# Altium schematic symbol library kmilo17pet-NSC_Switcher.SchLib: 2226 symbols (part 56 of 59)
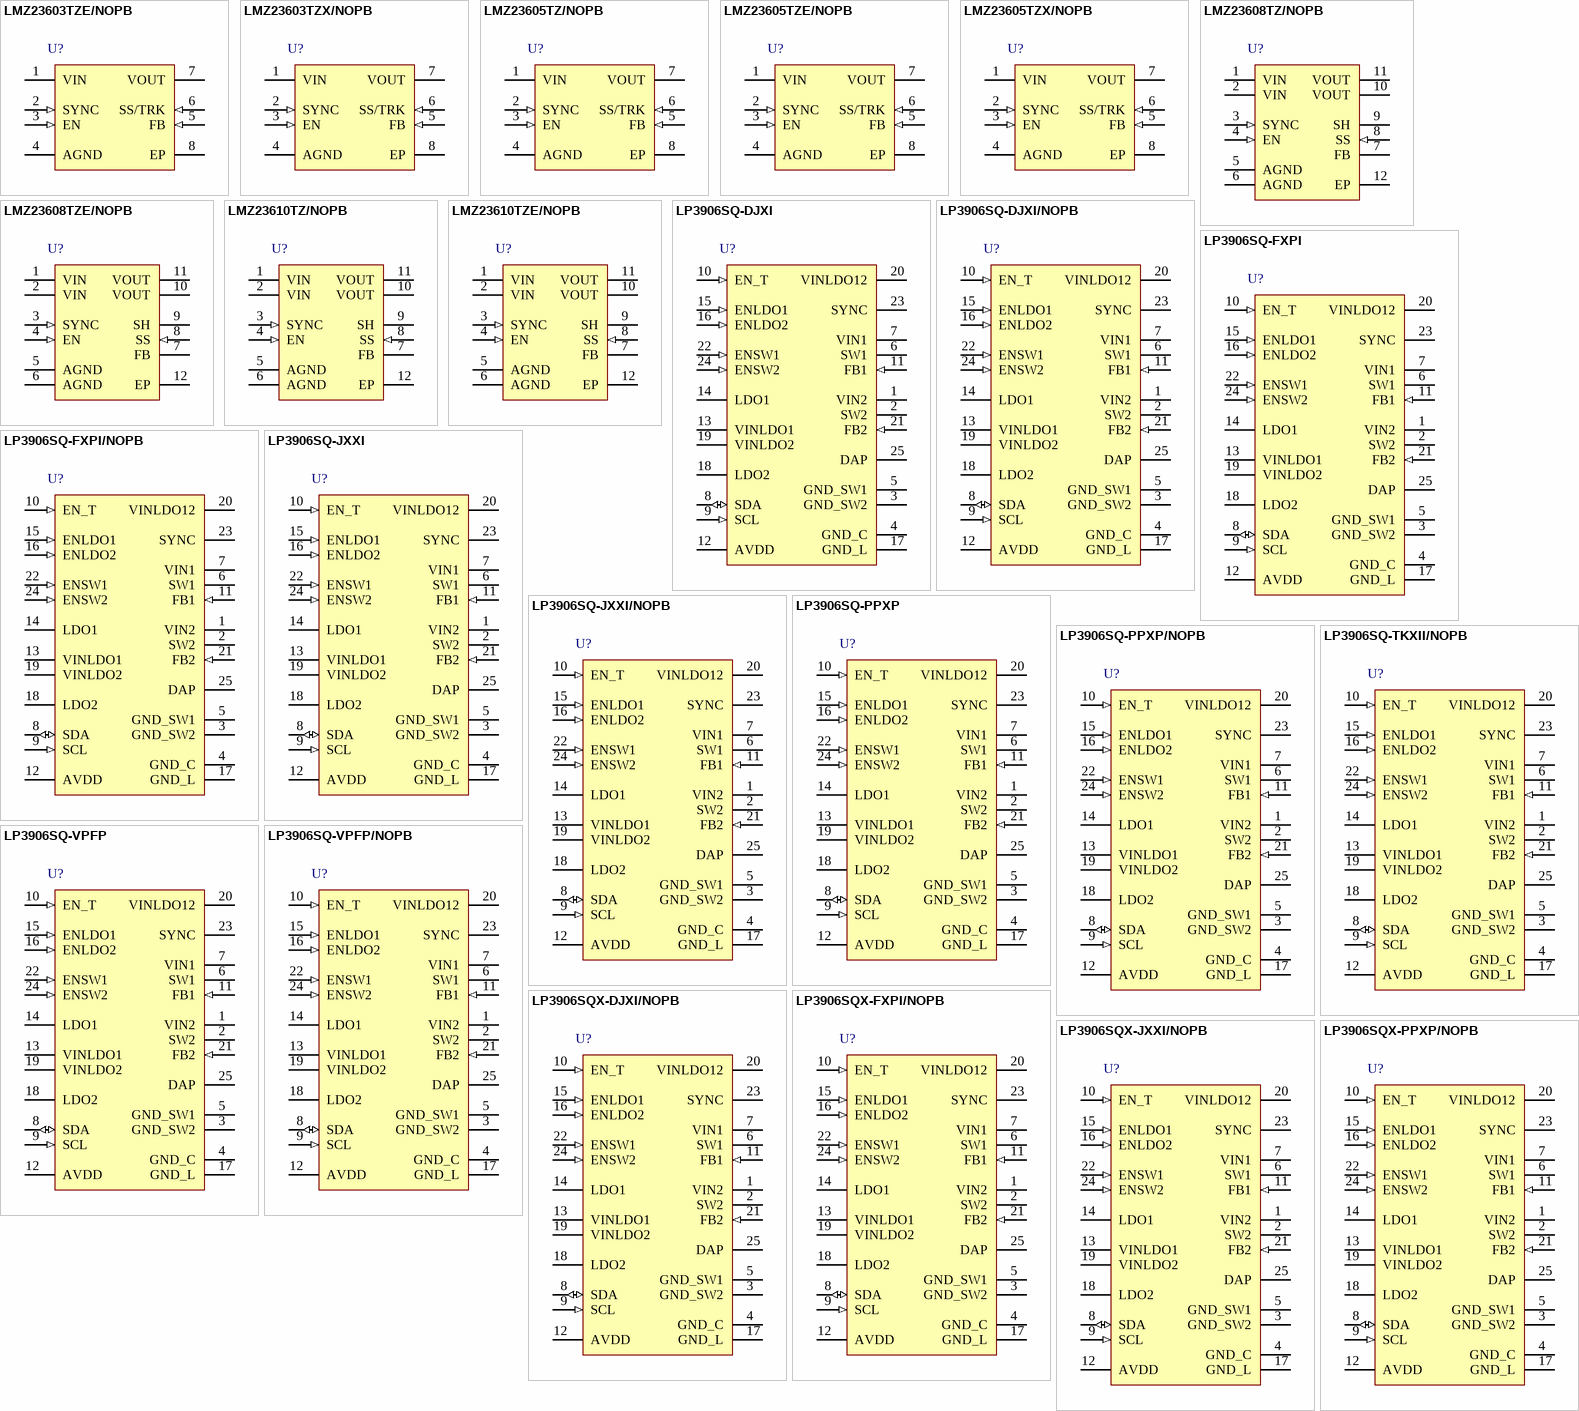
[diagram p124: symbols LMZ23603TZE/NOPB to LP3906SQX-PPXP/NOPB]

## LMZ23605TZX/NOPB
designator U?
5A SIMPLE SWITCHER® Power Module with 36V Maximum Input Voltage, 7 pin TO-PMOD, 500 Reel; PartNumber: LMZ23605TZX/NOPB; Manufacturer: National Semiconductor; PackageTopMarking: NSUZXYTTE#*LMZ23605; PowerWise: N; High-Reliability: Y; DatasheetVersion: Apr-2011; PackageVersion: revD, Apr-2011; PackageReference: TZA07A; PackageDescription: TO-PMOD-7, 10.16 x 9.85 x 4.57 mm Body, 7 Lead, 1.27mm Pitch, Surface Mount; RoHS: Y; PinCount: 7; CompType: Switcher; ComponentLink1Description: Manufacturer URL; ComponentLink1URL: http://www.national.com/; ComponentLink2Description: LMZ23605 Datasheet; ComponentLink2URL: http://www.national.com/ds/LM/LMZ23605.pdf; ComponentLink3Description: LMZ23605 Web Page; ComponentLink3URL: http://www.national.com/pf/LM/LMZ23605.html; ComponentLink4Description: TZA07A Package Page; ComponentLink4URL: http://www.national.com/packaging/folders/tza07a.html
footprint TZA07A_V (D2-PAK, 8-Leads, Body 9.9x10.2mm, Pitch 1.27mm, Lead Span 13.8mm, NSC Recommended)
pins: 1 VIN (power), 2 SYNC (in), 3 EN (in), 4 AGND (power), 5 FB (in), 6 SS/TRK (in), 7 VOUT (power), 8 EP (power)

## LMZ23608TZ/NOPB
designator U?
8A SIMPLE SWITCHER® Power Module with 36V Maximum Input Voltage and Current Sharing, 11 pin TO-PMOD, 32 Rail; PartNumber: LMZ23608TZ/NOPB; Manufacturer: National Semiconductor; PackageTopMarking: NSUZXYTTE#*LMZ23608; PowerWise: N; High-Reliability: Y; DatasheetVersion: May-2011; PackageVersion: revE, Apr-2011; PackageReference: TZA11A; PackageDescription: TO-PMOD, 15 x 15 x 5.9 mm Body, 11 Lead, 1.27 mm Pitch, Surface Mount; RoHS: Y; PinCount: 11; CompType: Switcher; ComponentLink1Description: Manufacturer URL; ComponentLink1URL: http://www.national.com/; ComponentLink2Description: LMZ23608 Datasheet; ComponentLink2URL: http://www.national.com/ds/LM/LMZ23608.pdf; ComponentLink3Description: LMZ23608 Web Page; ComponentLink3URL: http://www.national.com/pf/LM/LMZ23608.html; ComponentLink4Description: TZA11A Package Page; ComponentLink4URL: http://www.national.com/packaging/folders/tza11a.html
footprint TZA11A_V (TO, 12-Leads, Body 15x15mm, Pitch 1.27mm, Lead Span 17.8mm, NSC Recommended)
pins: 1 VIN (power), 2 VIN (power), 3 SYNC (in), 4 EN (in), 5 AGND (power), 6 AGND (power), 7 FB, 8 SS (in), 9 SH, 10 VOUT (power), 11 VOUT (power), 12 EP (power)

## LMZ23608TZE/NOPB
designator U?
8A SIMPLE SWITCHER® Power Module with 36V Maximum Input Voltage and Current Sharing, 11 pin TO-PMOD; PartNumber: LMZ23608TZE/NOPB; Manufacturer: National Semiconductor; PackageTopMarking: NSUZXYTTE#*LMZ23608; PowerWise: N; High-Reliability: Y; DatasheetVersion: May-2011; PackageVersion: revE, Apr-2011; PackageReference: TZA11A; PackageDescription: TO-PMOD, 15 x 15 x 5.9 mm Body, 11 Lead, 1.27 mm Pitch, Surface Mount; RoHS: Y; PinCount: 11; CompType: Switcher; ComponentLink1Description: Manufacturer URL; ComponentLink1URL: http://www.national.com/; ComponentLink2Description: LMZ23608 Datasheet; ComponentLink2URL: http://www.national.com/ds/LM/LMZ23608.pdf; ComponentLink3Description: LMZ23608 Web Page; ComponentLink3URL: http://www.national.com/pf/LM/LMZ23608.html; ComponentLink4Description: TZA11A Package Page; ComponentLink4URL: http://www.national.com/packaging/folders/tza11a.html
footprint TZA11A_V (TO, 12-Leads, Body 15x15mm, Pitch 1.27mm, Lead Span 17.8mm, NSC Recommended)
pins: 1 VIN (power), 2 VIN (power), 3 SYNC (in), 4 EN (in), 5 AGND (power), 6 AGND (power), 7 FB, 8 SS (in), 9 SH, 10 VOUT (power), 11 VOUT (power), 12 EP (power)

## LMZ23610TZ/NOPB
designator U?
10A SIMPLE SWITCHER® Power Module with 36V Maximum Input Voltage and Current Sharing, 11 pin TO-PMOD, 32 Rail; PartNumber: LMZ23610TZ/NOPB; Manufacturer: National Semiconductor; PackageTopMarking: NSUZXYTTE#*LMZ23610; PowerWise: N; High-Reliability: Y; DatasheetVersion: May-2011; PackageVersion: revE, Apr-2011; PackageReference: TZA11A; PackageDescription: TO-PMOD, 15 x 15 x 5.9 mm Body, 11 Lead, 1.27 mm Pitch, Surface Mount; RoHS: Y; PinCount: 11; CompType: Switcher; ComponentLink1Description: Manufacturer URL; ComponentLink1URL: http://www.national.com/; ComponentLink2Description: LMZ23610 Datasheet; ComponentLink2URL: http://www.national.com/ds/LM/LMZ23610.pdf; ComponentLink3Description: LMZ23610 Web Page; ComponentLink3URL: http://www.national.com/pf/LM/LMZ23610.html; ComponentLink4Description: TZA11A Package Page; ComponentLink4URL: http://www.national.com/packaging/folders/tza11a.html
footprint TZA11A_V (TO, 12-Leads, Body 15x15mm, Pitch 1.27mm, Lead Span 17.8mm, NSC Recommended)
pins: 1 VIN (power), 2 VIN (power), 3 SYNC (in), 4 EN (in), 5 AGND (power), 6 AGND (power), 7 FB, 8 SS (in), 9 SH, 10 VOUT (power), 11 VOUT (power), 12 EP (power)

## LMZ23610TZE/NOPB
designator U?
10A SIMPLE SWITCHER® Power Module with 36V Maximum Input Voltage and Current Sharing, 11 pin TO-PMOD, 250 Reel; PartNumber: LMZ23610TZE/NOPB; Manufacturer: National Semiconductor; PackageTopMarking: NSUZXYTTE#*LMZ23610; PowerWise: N; High-Reliability: Y; DatasheetVersion: May-2011; PackageVersion: revE, Apr-2011; PackageReference: TZA11A; PackageDescription: TO-PMOD, 15 x 15 x 5.9 mm Body, 11 Lead, 1.27 mm Pitch, Surface Mount; RoHS: Y; PinCount: 11; CompType: Switcher; ComponentLink1Description: Manufacturer URL; ComponentLink1URL: http://www.national.com/; ComponentLink2Description: LMZ23610 Datasheet; ComponentLink2URL: http://www.national.com/ds/LM/LMZ23610.pdf; ComponentLink3Description: LMZ23610 Web Page; ComponentLink3URL: http://www.national.com/pf/LM/LMZ23610.html; ComponentLink4Description: TZA11A Package Page; ComponentLink4URL: http://www.national.com/packaging/folders/tza11a.html
footprint TZA11A_V (TO, 12-Leads, Body 15x15mm, Pitch 1.27mm, Lead Span 17.8mm, NSC Recommended)
pins: 1 VIN (power), 2 VIN (power), 3 SYNC (in), 4 EN (in), 5 AGND (power), 6 AGND (power), 7 FB, 8 SS (in), 9 SH, 10 VOUT (power), 11 VOUT (power), 12 EP (power)

## LP3906SQ-DJXI
designator U?
Dual High-Current Step-Down DC/DC and Dual Linear Regulator with I2C Compatible Interface, 24-pin LLP; PartNumber: LP3906SQ-DJXI; Manufacturer: National Semiconductor; PackageTopMarking: NS*UZXYTT*06-DJXI; PowerWise: Y; CompType: Switcher; DatasheetVersion: Aug-2010; PackageVersion: revA, Oct-2003; PackageReference: SQA24B; PackageDescription: LLP, Plastic, Quad, 5 x 4 x 0.8mm Body, 24 Lead, 0.5mm Pitch, No Pullback; RoHS: Y; PinCount: 24; High-Reliability: Y; Code_JEDEC: MO-220-WGHD-1; ComponentLink1Description: Manufacturer URL; ComponentLink1URL: http://www.national.com/; ComponentLink2Description: LP3906 Datasheet; ComponentLink2URL: http://www.national.com/ds/LP/LP3906.pdf; ComponentLink3Description: LP3906 Web Page; ComponentLink3URL: http://www.national.com/pf/LP/LP3906.html; ComponentLink4Description: SQA24B Package Page; ComponentLink4URL: http://www.national.com/packaging/folders/sqa24b.html
footprint SQA24B (QFN, 24-Leads, Body 5x4mm, Pitch 0.5mm, NSC Recommended)
pins: 1 VIN2 (power), 2 SW2 (power), 3 GND_SW2 (power), 4 GND_C (power), 5 GND_SW1 (power), 6 SW1 (power), 7 VIN1 (power), 8 SDA (io), 9 SCL (in), 10 EN_T (in), 11 FB1 (in), 12 AVDD (power), 13 VINLDO1 (power), 14 LDO1 (power), 15 ENLDO1 (in), 16 ENLDO2 (in), 17 GND_L (power), 18 LDO2 (power), 19 VINLDO2 (power), 20 VINLDO12 (power), 21 FB2 (in), 22 ENSW1 (in), 23 SYNC, 24 ENSW2 (in), 25 DAP (power)

## LP3906SQ-DJXI/NOPB
designator U?
Dual High-Current Step-Down DC/DC and Dual Linear Regulator with I2C Compatible Interface, 24-pin LLP, Pb-Free; PartNumber: LP3906SQ-DJXI/NOPB; Manufacturer: National Semiconductor; PackageTopMarking: NS*UZXYTT*06-DJXI; PowerWise: Y; CompType: Switcher; DatasheetVersion: Aug-2010; PackageVersion: revA, Oct-2003; PackageReference: SQA24B; PackageDescription: LLP, Plastic, Quad, 5 x 4 x 0.8mm Body, 24 Lead, 0.5mm Pitch, No Pullback; RoHS: Y; PinCount: 24; High-Reliability: Y; Code_JEDEC: MO-220-WGHD-1; ComponentLink1Description: Manufacturer URL; ComponentLink1URL: http://www.national.com/; ComponentLink2Description: LP3906 Datasheet; ComponentLink2URL: http://www.national.com/ds/LP/LP3906.pdf; ComponentLink3Description: LP3906 Web Page; ComponentLink3URL: http://www.national.com/pf/LP/LP3906.html; ComponentLink4Description: SQA24B Package Page; ComponentLink4URL: http://www.national.com/packaging/folders/sqa24b.html
footprint SQA24B (QFN, 24-Leads, Body 5x4mm, Pitch 0.5mm, NSC Recommended)
pins: 1 VIN2 (power), 2 SW2 (power), 3 GND_SW2 (power), 4 GND_C (power), 5 GND_SW1 (power), 6 SW1 (power), 7 VIN1 (power), 8 SDA (io), 9 SCL (in), 10 EN_T (in), 11 FB1 (in), 12 AVDD (power), 13 VINLDO1 (power), 14 LDO1 (power), 15 ENLDO1 (in), 16 ENLDO2 (in), 17 GND_L (power), 18 LDO2 (power), 19 VINLDO2 (power), 20 VINLDO12 (power), 21 FB2 (in), 22 ENSW1 (in), 23 SYNC, 24 ENSW2 (in), 25 DAP (power)

## LP3906SQ-FXPI
designator U?
Dual High-Current Step-Down DC/DC and Dual Linear Regulator with I2C Compatible Interface, 24-pin LLP; PartNumber: LP3906SQ-FXPI; Manufacturer: National Semiconductor; PackageTopMarking: NS*UZXYTT*06-FXPI; PowerWise: N; CompType: Switcher; High-Reliability: Y; DatasheetVersion: Aug-2010; PackageVersion: revA, Oct-2003; PackageReference: SQA24B; PackageDescription: LLP, Plastic, Quad, 5 x 4 x 0.8mm Body, 24 Lead, 0.5mm Pitch, No Pullback; RoHS: Y; PinCount: 24; Code_JEDEC: MO-220-WGHD-1; ComponentLink1Description: Manufacturer URL; ComponentLink1URL: http://www.national.com/; ComponentLink2Description: LP3906 Datasheet; ComponentLink2URL: http://www.national.com/ds/LP/LP3906.pdf; ComponentLink3Description: LP3906 Web Page; ComponentLink3URL: http://www.national.com/pf/LP/LP3906.html; ComponentLink4Description: SQA24B Package Page; ComponentLink4URL: http://www.national.com/packaging/folders/sqa24b.html
footprint SQA24B (QFN, 24-Leads, Body 5x4mm, Pitch 0.5mm, NSC Recommended)
pins: 1 VIN2 (power), 2 SW2 (power), 3 GND_SW2 (power), 4 GND_C (power), 5 GND_SW1 (power), 6 SW1 (power), 7 VIN1 (power), 8 SDA (io), 9 SCL (in), 10 EN_T (in), 11 FB1 (in), 12 AVDD (power), 13 VINLDO1 (power), 14 LDO1 (power), 15 ENLDO1 (in), 16 ENLDO2 (in), 17 GND_L (power), 18 LDO2 (power), 19 VINLDO2 (power), 20 VINLDO12 (power), 21 FB2 (in), 22 ENSW1 (in), 23 SYNC, 24 ENSW2 (in), 25 DAP (power)

## LP3906SQ-FXPI/NOPB
designator U?
Dual High-Current Step-Down DC/DC and Dual Linear Regulator with I2C Compatible Interface, 24-pin LLP, Pb-Free; PartNumber: LP3906SQ-FXPI/NOPB; Manufacturer: National Semiconductor; PackageTopMarking: NS*UZXYTT*06-FXPI; PowerWise: N; CompType: Switcher; High-Reliability: Y; DatasheetVersion: Aug-2010; PackageVersion: revA, Oct-2003; PackageReference: SQA24B; PackageDescription: LLP, Plastic, Quad, 5 x 4 x 0.8mm Body, 24 Lead, 0.5mm Pitch, No Pullback; RoHS: Y; PinCount: 24; Code_JEDEC: MO-220-WGHD-1; ComponentLink1Description: Manufacturer URL; ComponentLink1URL: http://www.national.com/; ComponentLink2Description: LP3906 Datasheet; ComponentLink2URL: http://www.national.com/ds/LP/LP3906.pdf; ComponentLink3Description: LP3906 Web Page; ComponentLink3URL: http://www.national.com/pf/LP/LP3906.html; ComponentLink4Description: SQA24B Package Page; ComponentLink4URL: http://www.national.com/packaging/folders/sqa24b.html
footprint SQA24B (QFN, 24-Leads, Body 5x4mm, Pitch 0.5mm, NSC Recommended)
pins: 1 VIN2 (power), 2 SW2 (power), 3 GND_SW2 (power), 4 GND_C (power), 5 GND_SW1 (power), 6 SW1 (power), 7 VIN1 (power), 8 SDA (io), 9 SCL (in), 10 EN_T (in), 11 FB1 (in), 12 AVDD (power), 13 VINLDO1 (power), 14 LDO1 (power), 15 ENLDO1 (in), 16 ENLDO2 (in), 17 GND_L (power), 18 LDO2 (power), 19 VINLDO2 (power), 20 VINLDO12 (power), 21 FB2 (in), 22 ENSW1 (in), 23 SYNC, 24 ENSW2 (in), 25 DAP (power)

## LP3906SQ-JXXI
designator U?
Dual High-Current Step-Down DC/DC and Dual Linear Regulator with I2C Compatible Interface, 24-pin LLP; PartNumber: LP3906SQ-JXXI; Manufacturer: National Semiconductor; PackageTopMarking: NS*UZXYTT*06-JXXI; PowerWise: Y; CompType: Switcher; DatasheetVersion: Aug-2010; PackageVersion: revA, Oct-2003; PackageReference: SQA24B; PackageDescription: LLP, Plastic, Quad, 5 x 4 x 0.8mm Body, 24 Lead, 0.5mm Pitch, No Pullback; RoHS: Y; PinCount: 24; High-Reliability: Y; Code_JEDEC: MO-220-WGHD-1; ComponentLink1Description: Manufacturer URL; ComponentLink1URL: http://www.national.com/; ComponentLink2Description: LP3906 Datasheet; ComponentLink2URL: http://www.national.com/ds/LP/LP3906.pdf; ComponentLink3Description: LP3906 Web Page; ComponentLink3URL: http://www.national.com/pf/LP/LP3906.html; ComponentLink4Description: SQA24B Package Page; ComponentLink4URL: http://www.national.com/packaging/folders/sqa24b.html
footprint SQA24B (QFN, 24-Leads, Body 5x4mm, Pitch 0.5mm, NSC Recommended)
pins: 1 VIN2 (power), 2 SW2 (power), 3 GND_SW2 (power), 4 GND_C (power), 5 GND_SW1 (power), 6 SW1 (power), 7 VIN1 (power), 8 SDA (io), 9 SCL (in), 10 EN_T (in), 11 FB1 (in), 12 AVDD (power), 13 VINLDO1 (power), 14 LDO1 (power), 15 ENLDO1 (in), 16 ENLDO2 (in), 17 GND_L (power), 18 LDO2 (power), 19 VINLDO2 (power), 20 VINLDO12 (power), 21 FB2 (in), 22 ENSW1 (in), 23 SYNC, 24 ENSW2 (in), 25 DAP (power)

## LP3906SQ-JXXI/NOPB
designator U?
Dual High-Current Step-Down DC/DC and Dual Linear Regulator with I2C Compatible Interface, 24-pin LLP, Pb-Free; PartNumber: LP3906SQ-JXXI/NOPB; Manufacturer: National Semiconductor; PackageTopMarking: NS*UZXYTT*06-JXXI; PowerWise: Y; CompType: Switcher; DatasheetVersion: Aug-2010; PackageVersion: revA, Oct-2003; PackageReference: SQA24B; PackageDescription: LLP, Plastic, Quad, 5 x 4 x 0.8mm Body, 24 Lead, 0.5mm Pitch, No Pullback; RoHS: Y; PinCount: 24; High-Reliability: Y; Code_JEDEC: MO-220-WGHD-1; ComponentLink1Description: Manufacturer URL; ComponentLink1URL: http://www.national.com/; ComponentLink2Description: LP3906 Datasheet; ComponentLink2URL: http://www.national.com/ds/LP/LP3906.pdf; ComponentLink3Description: LP3906 Web Page; ComponentLink3URL: http://www.national.com/pf/LP/LP3906.html; ComponentLink4Description: SQA24B Package Page; ComponentLink4URL: http://www.national.com/packaging/folders/sqa24b.html
footprint SQA24B (QFN, 24-Leads, Body 5x4mm, Pitch 0.5mm, NSC Recommended)
pins: 1 VIN2 (power), 2 SW2 (power), 3 GND_SW2 (power), 4 GND_C (power), 5 GND_SW1 (power), 6 SW1 (power), 7 VIN1 (power), 8 SDA (io), 9 SCL (in), 10 EN_T (in), 11 FB1 (in), 12 AVDD (power), 13 VINLDO1 (power), 14 LDO1 (power), 15 ENLDO1 (in), 16 ENLDO2 (in), 17 GND_L (power), 18 LDO2 (power), 19 VINLDO2 (power), 20 VINLDO12 (power), 21 FB2 (in), 22 ENSW1 (in), 23 SYNC, 24 ENSW2 (in), 25 DAP (power)

## LP3906SQ-PPXP
designator U?
Dual High-Current Step-Down DC/DC and Dual Linear Regulator with I2C Compatible Interface, 24-pin LLP; PartNumber: LP3906SQ-PPXP; Manufacturer: National Semiconductor; PackageTopMarking: NS*UZXYTT*06-PPXP; PowerWise: Y; CompType: Switcher; DatasheetVersion: Aug-2010; PackageVersion: revA, Oct-2003; PackageReference: SQA24B; PackageDescription: LLP, Plastic, Quad, 5 x 4 x 0.8mm Body, 24 Lead, 0.5mm Pitch, No Pullback; RoHS: Y; PinCount: 24; High-Reliability: Y; Code_JEDEC: MO-220-WGHD-1; ComponentLink1Description: Manufacturer URL; ComponentLink1URL: http://www.national.com/; ComponentLink2Description: LP3906 Datasheet; ComponentLink2URL: http://www.national.com/ds/LP/LP3906.pdf; ComponentLink3Description: LP3906 Web Page; ComponentLink3URL: http://www.national.com/pf/LP/LP3906.html; ComponentLink4Description: SQA24B Package Page; ComponentLink4URL: http://www.national.com/packaging/folders/sqa24b.html
footprint SQA24B (QFN, 24-Leads, Body 5x4mm, Pitch 0.5mm, NSC Recommended)
pins: 1 VIN2 (power), 2 SW2 (power), 3 GND_SW2 (power), 4 GND_C (power), 5 GND_SW1 (power), 6 SW1 (power), 7 VIN1 (power), 8 SDA (io), 9 SCL (in), 10 EN_T (in), 11 FB1 (in), 12 AVDD (power), 13 VINLDO1 (power), 14 LDO1 (power), 15 ENLDO1 (in), 16 ENLDO2 (in), 17 GND_L (power), 18 LDO2 (power), 19 VINLDO2 (power), 20 VINLDO12 (power), 21 FB2 (in), 22 ENSW1 (in), 23 SYNC, 24 ENSW2 (in), 25 DAP (power)

## LP3906SQ-PPXP/NOPB
designator U?
Dual High-Current Step-Down DC/DC and Dual Linear Regulator with I2C Compatible Interface, 24-pin LLP, Pb-Free; PartNumber: LP3906SQ-PPXP/NOPB; Manufacturer: National Semiconductor; PackageTopMarking: NS*UZXYTT*06-PPXP; PowerWise: Y; CompType: Switcher; DatasheetVersion: Aug-2010; PackageVersion: revA, Oct-2003; PackageReference: SQA24B; PackageDescription: LLP, Plastic, Quad, 5 x 4 x 0.8mm Body, 24 Lead, 0.5mm Pitch, No Pullback; RoHS: Y; PinCount: 24; High-Reliability: Y; Code_JEDEC: MO-220-WGHD-1; ComponentLink1Description: Manufacturer URL; ComponentLink1URL: http://www.national.com/; ComponentLink2Description: LP3906 Datasheet; ComponentLink2URL: http://www.national.com/ds/LP/LP3906.pdf; ComponentLink3Description: LP3906 Web Page; ComponentLink3URL: http://www.national.com/pf/LP/LP3906.html; ComponentLink4Description: SQA24B Package Page; ComponentLink4URL: http://www.national.com/packaging/folders/sqa24b.html
footprint SQA24B (QFN, 24-Leads, Body 5x4mm, Pitch 0.5mm, NSC Recommended)
pins: 1 VIN2 (power), 2 SW2 (power), 3 GND_SW2 (power), 4 GND_C (power), 5 GND_SW1 (power), 6 SW1 (power), 7 VIN1 (power), 8 SDA (io), 9 SCL (in), 10 EN_T (in), 11 FB1 (in), 12 AVDD (power), 13 VINLDO1 (power), 14 LDO1 (power), 15 ENLDO1 (in), 16 ENLDO2 (in), 17 GND_L (power), 18 LDO2 (power), 19 VINLDO2 (power), 20 VINLDO12 (power), 21 FB2 (in), 22 ENSW1 (in), 23 SYNC, 24 ENSW2 (in), 25 DAP (power)

## LP3906SQ-TKXII/NOPB
designator U?
Dual High-Current Step-Down DC/DC and Dual Linear Regulator with I2C Compatible Interface, 24 pin LLP; PartNumber: LP3906SQ-TKXII/NOPB; Manufacturer: National Semiconductor; PackageTopMarking: NS*UZXYTT*06TKXII; PowerWise: N; CompType: Switcher; High-Reliability: Y; DatasheetVersion: Aug-2010; PackageVersion: revA, Oct-2003; PackageReference: SQA24B; PackageDescription: LLP, Plastic, Quad, 5 x 4 x 0.8mm Body, 24 Lead, 0.5mm Pitch, No Pullback; RoHS: Y; PinCount: 24; Code_JEDEC: MO-220-WGHD-1; ComponentLink1Description: Manufacturer URL; ComponentLink1URL: http://www.national.com/; ComponentLink2Description: LP3906 Datasheet; ComponentLink2URL: http://www.national.com/ds/LP/LP3906.pdf; ComponentLink3Description: LP3906 Web Page; ComponentLink3URL: http://www.national.com/pf/LP/LP3906.html; ComponentLink4Description: SQA24B Package Page; ComponentLink4URL: http://www.national.com/packaging/folders/sqa24b.html
footprint SQA24B (QFN, 24-Leads, Body 5x4mm, Pitch 0.5mm, NSC Recommended)
pins: 1 VIN2 (power), 2 SW2 (power), 3 GND_SW2 (power), 4 GND_C (power), 5 GND_SW1 (power), 6 SW1 (power), 7 VIN1 (power), 8 SDA (io), 9 SCL (in), 10 EN_T (in), 11 FB1 (in), 12 AVDD (power), 13 VINLDO1 (power), 14 LDO1 (power), 15 ENLDO1 (in), 16 ENLDO2 (in), 17 GND_L (power), 18 LDO2 (power), 19 VINLDO2 (power), 20 VINLDO12 (power), 21 FB2 (in), 22 ENSW1 (in), 23 SYNC, 24 ENSW2 (in), 25 DAP (power)

## LP3906SQ-VPFP
designator U?
Dual High-Current Step-Down DC/DC and Dual Linear Regulator with I2C Compatible Interface, 24-pin LLP; PartNumber: LP3906SQ-VPFP; Manufacturer: National Semiconductor; PackageTopMarking: NS*UZXYTT*06-VPFP; PowerWise: Y; CompType: Switcher; DatasheetVersion: Aug-2010; PackageVersion: revA, Oct-2003; PackageReference: SQA24B; PackageDescription: LLP, Plastic, Quad, 5 x 4 x 0.8mm Body, 24 Lead, 0.5mm Pitch, No Pullback; RoHS: Y; PinCount: 24; High-Reliability: Y; Code_JEDEC: MO-220-WGHD-1; ComponentLink1Description: Manufacturer URL; ComponentLink1URL: http://www.national.com/; ComponentLink2Description: LP3906 Datasheet; ComponentLink2URL: http://www.national.com/ds/LP/LP3906.pdf; ComponentLink3Description: LP3906 Web Page; ComponentLink3URL: http://www.national.com/pf/LP/LP3906.html; ComponentLink4Description: SQA24B Package Page; ComponentLink4URL: http://www.national.com/packaging/folders/sqa24b.html
footprint SQA24B (QFN, 24-Leads, Body 5x4mm, Pitch 0.5mm, NSC Recommended)
pins: 1 VIN2 (power), 2 SW2 (power), 3 GND_SW2 (power), 4 GND_C (power), 5 GND_SW1 (power), 6 SW1 (power), 7 VIN1 (power), 8 SDA (io), 9 SCL (in), 10 EN_T (in), 11 FB1 (in), 12 AVDD (power), 13 VINLDO1 (power), 14 LDO1 (power), 15 ENLDO1 (in), 16 ENLDO2 (in), 17 GND_L (power), 18 LDO2 (power), 19 VINLDO2 (power), 20 VINLDO12 (power), 21 FB2 (in), 22 ENSW1 (in), 23 SYNC, 24 ENSW2 (in), 25 DAP (power)

## LP3906SQ-VPFP/NOPB
designator U?
Dual High-Current Step-Down DC/DC and Dual Linear Regulator with I2C Compatible Interface, 24-pin LLP, Pb-Free; PartNumber: LP3906SQ-VPFP/NOPB; Manufacturer: National Semiconductor; PackageTopMarking: NS*UZXYTT*06-VPFP; PowerWise: Y; CompType: Switcher; DatasheetVersion: Aug-2010; PackageVersion: revA, Oct-2003; PackageReference: SQA24B; PackageDescription: LLP, Plastic, Quad, 5 x 4 x 0.8mm Body, 24 Lead, 0.5mm Pitch, No Pullback; RoHS: Y; PinCount: 24; High-Reliability: Y; Code_JEDEC: MO-220-WGHD-1; ComponentLink1Description: Manufacturer URL; ComponentLink1URL: http://www.national.com/; ComponentLink2Description: LP3906 Datasheet; ComponentLink2URL: http://www.national.com/ds/LP/LP3906.pdf; ComponentLink3Description: LP3906 Web Page; ComponentLink3URL: http://www.national.com/pf/LP/LP3906.html; ComponentLink4Description: SQA24B Package Page; ComponentLink4URL: http://www.national.com/packaging/folders/sqa24b.html
footprint SQA24B (QFN, 24-Leads, Body 5x4mm, Pitch 0.5mm, NSC Recommended)
pins: 1 VIN2 (power), 2 SW2 (power), 3 GND_SW2 (power), 4 GND_C (power), 5 GND_SW1 (power), 6 SW1 (power), 7 VIN1 (power), 8 SDA (io), 9 SCL (in), 10 EN_T (in), 11 FB1 (in), 12 AVDD (power), 13 VINLDO1 (power), 14 LDO1 (power), 15 ENLDO1 (in), 16 ENLDO2 (in), 17 GND_L (power), 18 LDO2 (power), 19 VINLDO2 (power), 20 VINLDO12 (power), 21 FB2 (in), 22 ENSW1 (in), 23 SYNC, 24 ENSW2 (in), 25 DAP (power)

## LP3906SQX-DJXI/NOPB
designator U?
Dual High-Current Step-Down DC/DC and Dual Linear Regulator with I2C Compatible Interface, 24-pin LLP, Pb-Free; PartNumber: LP3906SQX-DJXI/NOPB; Manufacturer: National Semiconductor; PackageTopMarking: NS*UZXYTT*06-DJXI; PowerWise: Y; CompType: Switcher; DatasheetVersion: Aug-2010; PackageVersion: revA, Oct-2003; PackageReference: SQA24B; PackageDescription: LLP, Plastic, Quad, 5 x 4 x 0.8mm Body, 24 Lead, 0.5mm Pitch, No Pullback; RoHS: Y; PinCount: 24; High-Reliability: Y; Code_JEDEC: MO-220-WGHD-1; ComponentLink1Description: Manufacturer URL; ComponentLink1URL: http://www.national.com/; ComponentLink2Description: LP3906 Datasheet; ComponentLink2URL: http://www.national.com/ds/LP/LP3906.pdf; ComponentLink3Description: LP3906 Web Page; ComponentLink3URL: http://www.national.com/pf/LP/LP3906.html; ComponentLink4Description: SQA24B Package Page; ComponentLink4URL: http://www.national.com/packaging/folders/sqa24b.html
footprint SQA24B (QFN, 24-Leads, Body 5x4mm, Pitch 0.5mm, NSC Recommended)
pins: 1 VIN2 (power), 2 SW2 (power), 3 GND_SW2 (power), 4 GND_C (power), 5 GND_SW1 (power), 6 SW1 (power), 7 VIN1 (power), 8 SDA (io), 9 SCL (in), 10 EN_T (in), 11 FB1 (in), 12 AVDD (power), 13 VINLDO1 (power), 14 LDO1 (power), 15 ENLDO1 (in), 16 ENLDO2 (in), 17 GND_L (power), 18 LDO2 (power), 19 VINLDO2 (power), 20 VINLDO12 (power), 21 FB2 (in), 22 ENSW1 (in), 23 SYNC, 24 ENSW2 (in), 25 DAP (power)

## LP3906SQX-FXPI/NOPB
designator U?
Dual High-Current Step-Down DC/DC and Dual Linear Regulator with I2C Compatible Interface, 24-pin LLP, Pb-Free; PartNumber: LP3906SQX-FXPI/NOPB; Manufacturer: National Semiconductor; PackageTopMarking: NS*UZXYTT*06-FXPI; PowerWise: N; CompType: Switcher; High-Reliability: Y; DatasheetVersion: Aug-2010; PackageVersion: revA, Oct-2003; PackageReference: SQA24B; PackageDescription: LLP, Plastic, Quad, 5 x 4 x 0.8mm Body, 24 Lead, 0.5mm Pitch, No Pullback; RoHS: Y; PinCount: 24; Code_JEDEC: MO-220-WGHD-1; ComponentLink1Description: Manufacturer URL; ComponentLink1URL: http://www.national.com/; ComponentLink2Description: LP3906 Datasheet; ComponentLink2URL: http://www.national.com/ds/LP/LP3906.pdf; ComponentLink3Description: LP3906 Web Page; ComponentLink3URL: http://www.national.com/pf/LP/LP3906.html; ComponentLink4Description: SQA24B Package Page; ComponentLink4URL: http://www.national.com/packaging/folders/sqa24b.html
footprint SQA24B (QFN, 24-Leads, Body 5x4mm, Pitch 0.5mm, NSC Recommended)
pins: 1 VIN2 (power), 2 SW2 (power), 3 GND_SW2 (power), 4 GND_C (power), 5 GND_SW1 (power), 6 SW1 (power), 7 VIN1 (power), 8 SDA (io), 9 SCL (in), 10 EN_T (in), 11 FB1 (in), 12 AVDD (power), 13 VINLDO1 (power), 14 LDO1 (power), 15 ENLDO1 (in), 16 ENLDO2 (in), 17 GND_L (power), 18 LDO2 (power), 19 VINLDO2 (power), 20 VINLDO12 (power), 21 FB2 (in), 22 ENSW1 (in), 23 SYNC, 24 ENSW2 (in), 25 DAP (power)

## LP3906SQX-JXXI/NOPB
designator U?
Dual High-Current Step-Down DC/DC and Dual Linear Regulator with I2C Compatible Interface, 24-pin LLP, Pb-Free; PartNumber: LP3906SQX-JXXI/NOPB; Manufacturer: National Semiconductor; PackageTopMarking: NS*UZXYTT*06-JXXI; PowerWise: Y; CompType: Switcher; DatasheetVersion: Aug-2010; PackageVersion: revA, Oct-2003; PackageReference: SQA24B; PackageDescription: LLP, Plastic, Quad, 5 x 4 x 0.8mm Body, 24 Lead, 0.5mm Pitch, No Pullback; RoHS: Y; PinCount: 24; High-Reliability: Y; Code_JEDEC: MO-220-WGHD-1; ComponentLink1Description: Manufacturer URL; ComponentLink1URL: http://www.national.com/; ComponentLink2Description: LP3906 Datasheet; ComponentLink2URL: http://www.national.com/ds/LP/LP3906.pdf; ComponentLink3Description: LP3906 Web Page; ComponentLink3URL: http://www.national.com/pf/LP/LP3906.html; ComponentLink4Description: SQA24B Package Page; ComponentLink4URL: http://www.national.com/packaging/folders/sqa24b.html
footprint SQA24B (QFN, 24-Leads, Body 5x4mm, Pitch 0.5mm, NSC Recommended)
pins: 1 VIN2 (power), 2 SW2 (power), 3 GND_SW2 (power), 4 GND_C (power), 5 GND_SW1 (power), 6 SW1 (power), 7 VIN1 (power), 8 SDA (io), 9 SCL (in), 10 EN_T (in), 11 FB1 (in), 12 AVDD (power), 13 VINLDO1 (power), 14 LDO1 (power), 15 ENLDO1 (in), 16 ENLDO2 (in), 17 GND_L (power), 18 LDO2 (power), 19 VINLDO2 (power), 20 VINLDO12 (power), 21 FB2 (in), 22 ENSW1 (in), 23 SYNC, 24 ENSW2 (in), 25 DAP (power)

## LP3906SQX-PPXP/NOPB
designator U?
Dual High-Current Step-Down DC/DC and Dual Linear Regulator with I2C Compatible Interface, 24-pin LLP, Pb-Free; PartNumber: LP3906SQX-PPXP/NOPB; Manufacturer: National Semiconductor; PackageTopMarking: NS*UZXYTT*06-PPXP; PowerWise: Y; CompType: Switcher; DatasheetVersion: Aug-2010; PackageVersion: revA, Oct-2003; PackageReference: SQA24B; PackageDescription: LLP, Plastic, Quad, 5 x 4 x 0.8mm Body, 24 Lead, 0.5mm Pitch, No Pullback; RoHS: Y; PinCount: 24; High-Reliability: Y; Code_JEDEC: MO-220-WGHD-1; ComponentLink1Description: Manufacturer URL; ComponentLink1URL: http://www.national.com/; ComponentLink2Description: LP3906 Datasheet; ComponentLink2URL: http://www.national.com/ds/LP/LP3906.pdf; ComponentLink3Description: LP3906 Web Page; ComponentLink3URL: http://www.national.com/pf/LP/LP3906.html; ComponentLink4Description: SQA24B Package Page; ComponentLink4URL: http://www.national.com/packaging/folders/sqa24b.html
footprint SQA24B (QFN, 24-Leads, Body 5x4mm, Pitch 0.5mm, NSC Recommended)
pins: 1 VIN2 (power), 2 SW2 (power), 3 GND_SW2 (power), 4 GND_C (power), 5 GND_SW1 (power), 6 SW1 (power), 7 VIN1 (power), 8 SDA (io), 9 SCL (in), 10 EN_T (in), 11 FB1 (in), 12 AVDD (power), 13 VINLDO1 (power), 14 LDO1 (power), 15 ENLDO1 (in), 16 ENLDO2 (in), 17 GND_L (power), 18 LDO2 (power), 19 VINLDO2 (power), 20 VINLDO12 (power), 21 FB2 (in), 22 ENSW1 (in), 23 SYNC, 24 ENSW2 (in), 25 DAP (power)

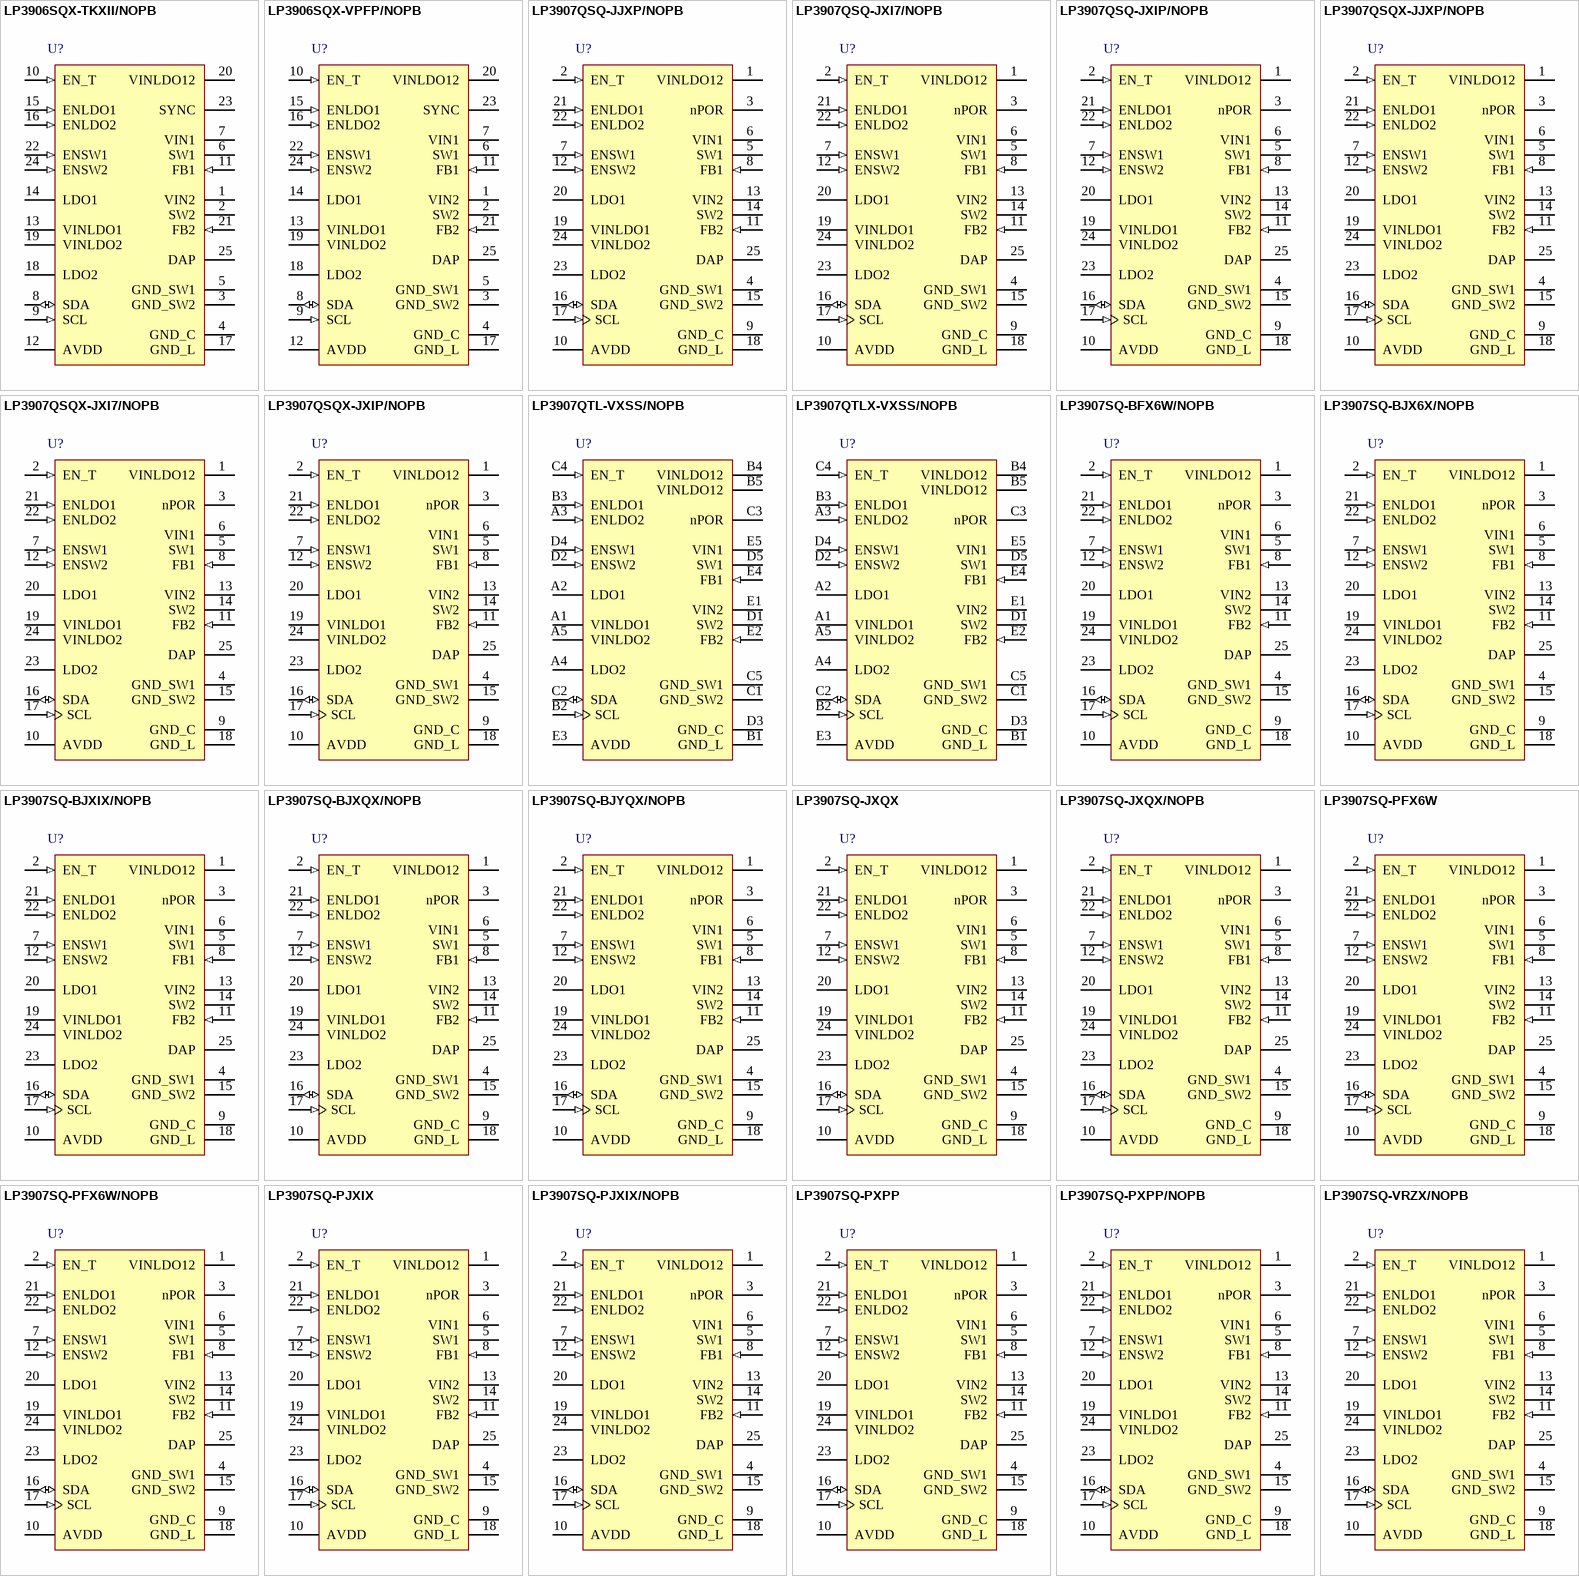
[diagram p65: symbols LP3906SQX-TKXII/NOPB to LP3907SQ-VRZX/NOPB]

## LP3906SQX-TKXII/NOPB
designator U?
Dual High-Current Step-Down DC/DC and Dual Linear Regulator with I2C Compatible Interface, 24 pin LLP; PartNumber: LP3906SQX-TKXII/NOPB; Manufacturer: National Semiconductor; PackageTopMarking: NS*UZXYTT*06TKXII; PowerWise: N; CompType: Switcher; High-Reliability: Y; DatasheetVersion: Aug-2010; PackageVersion: revA, Oct-2003; PackageReference: SQA24B; PackageDescription: LLP, Plastic, Quad, 5 x 4 x 0.8mm Body, 24 Lead, 0.5mm Pitch, No Pullback; RoHS: Y; PinCount: 24; Code_JEDEC: MO-220-WGHD-1; ComponentLink1Description: Manufacturer URL; ComponentLink1URL: http://www.national.com/; ComponentLink2Description: LP3906 Datasheet; ComponentLink2URL: http://www.national.com/ds/LP/LP3906.pdf; ComponentLink3Description: LP3906 Web Page; ComponentLink3URL: http://www.national.com/pf/LP/LP3906.html; ComponentLink4Description: SQA24B Package Page; ComponentLink4URL: http://www.national.com/packaging/folders/sqa24b.html
footprint SQA24B (QFN, 24-Leads, Body 5x4mm, Pitch 0.5mm, NSC Recommended)
pins: 1 VIN2 (power), 2 SW2 (power), 3 GND_SW2 (power), 4 GND_C (power), 5 GND_SW1 (power), 6 SW1 (power), 7 VIN1 (power), 8 SDA (io), 9 SCL (in), 10 EN_T (in), 11 FB1 (in), 12 AVDD (power), 13 VINLDO1 (power), 14 LDO1 (power), 15 ENLDO1 (in), 16 ENLDO2 (in), 17 GND_L (power), 18 LDO2 (power), 19 VINLDO2 (power), 20 VINLDO12 (power), 21 FB2 (in), 22 ENSW1 (in), 23 SYNC, 24 ENSW2 (in), 25 DAP (power)

## LP3906SQX-VPFP/NOPB
designator U?
Dual High-Current Step-Down DC/DC and Dual Linear Regulator with I2C Compatible Interface, 24-pin LLP, Pb-Free; PartNumber: LP3906SQX-VPFP/NOPB; Manufacturer: National Semiconductor; PackageTopMarking: NS*UZXYTT*06-VPFP; PowerWise: Y; CompType: Switcher; DatasheetVersion: Aug-2010; PackageVersion: revA, Oct-2003; PackageReference: SQA24B; PackageDescription: LLP, Plastic, Quad, 5 x 4 x 0.8mm Body, 24 Lead, 0.5mm Pitch, No Pullback; RoHS: Y; PinCount: 24; High-Reliability: Y; Code_JEDEC: MO-220-WGHD-1; ComponentLink1Description: Manufacturer URL; ComponentLink1URL: http://www.national.com/; ComponentLink2Description: LP3906 Datasheet; ComponentLink2URL: http://www.national.com/ds/LP/LP3906.pdf; ComponentLink3Description: LP3906 Web Page; ComponentLink3URL: http://www.national.com/pf/LP/LP3906.html; ComponentLink4Description: SQA24B Package Page; ComponentLink4URL: http://www.national.com/packaging/folders/sqa24b.html
footprint SQA24B (QFN, 24-Leads, Body 5x4mm, Pitch 0.5mm, NSC Recommended)
pins: 1 VIN2 (power), 2 SW2 (power), 3 GND_SW2 (power), 4 GND_C (power), 5 GND_SW1 (power), 6 SW1 (power), 7 VIN1 (power), 8 SDA (io), 9 SCL (in), 10 EN_T (in), 11 FB1 (in), 12 AVDD (power), 13 VINLDO1 (power), 14 LDO1 (power), 15 ENLDO1 (in), 16 ENLDO2 (in), 17 GND_L (power), 18 LDO2 (power), 19 VINLDO2 (power), 20 VINLDO12 (power), 21 FB2 (in), 22 ENSW1 (in), 23 SYNC, 24 ENSW2 (in), 25 DAP (power)

## LP3907QSQ-JJXP/NOPB
designator U?
Dual High-Current Step-Down DC/DC and Dual Linear Regulator with I2C-Compatible Interface, 24-pin LLP; PartNumber: LP3907QSQ-JJXP/NOPB; Manufacturer: National Semiconductor; PackageTopMarking: NS*UZXYTT*07QJJXP; PowerWise: N; CompType: Switcher; High-Reliability: Y; DatasheetVersion: Aug-2011; PackageVersion: revB, Aug-2003; PackageReference: SQA24A; PackageDescription: LLP, Plastic, Quad, 4 x 4 x 0.8mm Body, 24 Lead, 0.5mm Pitch, No Pullback; RoHS: Y; PinCount: 24; Code_JEDEC: MO-220-WGGD-6; ComponentLink1Description: Manufacturer URL; ComponentLink1URL: http://www.national.com/; ComponentLink2Description: LP3907 Datasheet; ComponentLink2URL: http://www.national.com/ds/LP/LP3907.pdf; ComponentLink3Description: LP3907 Web Page; ComponentLink3URL: http://www.national.com/pf/LP/LP3907.html; ComponentLink4Description: SQA24A Package Page; ComponentLink4URL: http://www.national.com/packaging/folders/sqa24a.html
footprint SQA24A (QFN, 24-Leads, Body 4x4mm, Pitch 0.5mm, Thermal Pad 2.7x2.7mm, NSC Recommended)
pins: 1 VINLDO12 (power), 2 EN_T (in), 3 nPOR (oc), 4 GND_SW1 (power), 5 SW1 (power), 6 VIN1 (power), 7 ENSW1 (in), 8 FB1 (in), 9 GND_C (power), 10 AVDD (power), 11 FB2 (in), 12 ENSW2 (in), 13 VIN2 (power), 14 SW2 (power), 15 GND_SW2 (power), 16 SDA (io), 17 SCL (in), 18 GND_L (power), 19 VINLDO1 (power), 20 LDO1 (power), 21 ENLDO1 (in), 22 ENLDO2 (in), 23 LDO2 (power), 24 VINLDO2 (power), 25 DAP (power)

## LP3907QSQ-JXI7/NOPB
designator U?
Dual High-Current Step-Down DC/DC and Dual Linear Regulator with I2C-Compatible Interface, 24-pin LLP, 1000 Reel; PartNumber: LP3907QSQ-JXI7/NOPB; Manufacturer: National Semiconductor; PackageTopMarking: NS*UZXYTT*07QJXI7; PowerWise: N; CompType: Switcher; High-Reliability: Y; DatasheetVersion: Aug-2011; PackageVersion: revB, Aug-2003; PackageReference: SQA24A; PackageDescription: LLP, Plastic, Quad, 4 x 4 x 0.8mm Body, 24 Lead, 0.5mm Pitch, No Pullback; RoHS: Y; PinCount: 24; Code_JEDEC: MO-220-WGGD-6; ComponentLink1Description: Manufacturer URL; ComponentLink1URL: http://www.national.com/; ComponentLink2Description: LP3907 Datasheet; ComponentLink2URL: http://www.national.com/ds/LP/LP3907.pdf; ComponentLink3Description: LP3907 Web Page; ComponentLink3URL: http://www.national.com/pf/LP/LP3907.html; ComponentLink4Description: SQA24A Package Page; ComponentLink4URL: http://www.national.com/packaging/folders/sqa24a.html
footprint SQA24A (QFN, 24-Leads, Body 4x4mm, Pitch 0.5mm, Thermal Pad 2.7x2.7mm, NSC Recommended)
pins: 1 VINLDO12 (power), 2 EN_T (in), 3 nPOR (oc), 4 GND_SW1 (power), 5 SW1 (power), 6 VIN1 (power), 7 ENSW1 (in), 8 FB1 (in), 9 GND_C (power), 10 AVDD (power), 11 FB2 (in), 12 ENSW2 (in), 13 VIN2 (power), 14 SW2 (power), 15 GND_SW2 (power), 16 SDA (io), 17 SCL (in), 18 GND_L (power), 19 VINLDO1 (power), 20 LDO1 (power), 21 ENLDO1 (in), 22 ENLDO2 (in), 23 LDO2 (power), 24 VINLDO2 (power), 25 DAP (power)

## LP3907QSQ-JXIP/NOPB
designator U?
Dual High-Current Step-Down DC/DC and Dual Linear Regulator with I2C-Compatible Interface, 24-pin LLP; PartNumber: LP3907QSQ-JXIP/NOPB; Manufacturer: National Semiconductor; PackageTopMarking: NS*UZXYTT*07QJXIP; PowerWise: N; CompType: Switcher; High-Reliability: Y; DatasheetVersion: Aug-2011; PackageVersion: revB, Aug-2003; PackageReference: SQA24A; PackageDescription: LLP, Plastic, Quad, 4 x 4 x 0.8mm Body, 24 Lead, 0.5mm Pitch, No Pullback; RoHS: Y; PinCount: 24; Code_JEDEC: MO-220-WGGD-6; ComponentLink1Description: Manufacturer URL; ComponentLink1URL: http://www.national.com/; ComponentLink2Description: LP3907 Datasheet; ComponentLink2URL: http://www.national.com/ds/LP/LP3907.pdf; ComponentLink3Description: LP3907 Web Page; ComponentLink3URL: http://www.national.com/pf/LP/LP3907.html; ComponentLink4Description: SQA24A Package Page; ComponentLink4URL: http://www.national.com/packaging/folders/sqa24a.html
footprint SQA24A (QFN, 24-Leads, Body 4x4mm, Pitch 0.5mm, Thermal Pad 2.7x2.7mm, NSC Recommended)
pins: 1 VINLDO12 (power), 2 EN_T (in), 3 nPOR (oc), 4 GND_SW1 (power), 5 SW1 (power), 6 VIN1 (power), 7 ENSW1 (in), 8 FB1 (in), 9 GND_C (power), 10 AVDD (power), 11 FB2 (in), 12 ENSW2 (in), 13 VIN2 (power), 14 SW2 (power), 15 GND_SW2 (power), 16 SDA (io), 17 SCL (in), 18 GND_L (power), 19 VINLDO1 (power), 20 LDO1 (power), 21 ENLDO1 (in), 22 ENLDO2 (in), 23 LDO2 (power), 24 VINLDO2 (power), 25 DAP (power)

## LP3907QSQX-JJXP/NOPB
designator U?
Dual High-Current Step-Down DC/DC and Dual Linear Regulator with I2C-Compatible Interface, 24-pin LLP; PartNumber: LP3907QSQX-JJXP/NOPB; Manufacturer: National Semiconductor; PackageTopMarking: NS*UZXYTT*07QJJXP; PowerWise: N; CompType: Switcher; High-Reliability: Y; DatasheetVersion: Aug-2011; PackageVersion: revB, Aug-2003; PackageReference: SQA24A; PackageDescription: LLP, Plastic, Quad, 4 x 4 x 0.8mm Body, 24 Lead, 0.5mm Pitch, No Pullback; RoHS: Y; PinCount: 24; Code_JEDEC: MO-220-WGGD-6; ComponentLink1Description: Manufacturer URL; ComponentLink1URL: http://www.national.com/; ComponentLink2Description: LP3907 Datasheet; ComponentLink2URL: http://www.national.com/ds/LP/LP3907.pdf; ComponentLink3Description: LP3907 Web Page; ComponentLink3URL: http://www.national.com/pf/LP/LP3907.html; ComponentLink4Description: SQA24A Package Page; ComponentLink4URL: http://www.national.com/packaging/folders/sqa24a.html
footprint SQA24A (QFN, 24-Leads, Body 4x4mm, Pitch 0.5mm, Thermal Pad 2.7x2.7mm, NSC Recommended)
pins: 1 VINLDO12 (power), 2 EN_T (in), 3 nPOR (oc), 4 GND_SW1 (power), 5 SW1 (power), 6 VIN1 (power), 7 ENSW1 (in), 8 FB1 (in), 9 GND_C (power), 10 AVDD (power), 11 FB2 (in), 12 ENSW2 (in), 13 VIN2 (power), 14 SW2 (power), 15 GND_SW2 (power), 16 SDA (io), 17 SCL (in), 18 GND_L (power), 19 VINLDO1 (power), 20 LDO1 (power), 21 ENLDO1 (in), 22 ENLDO2 (in), 23 LDO2 (power), 24 VINLDO2 (power), 25 DAP (power)

## LP3907QSQX-JXI7/NOPB
designator U?
Dual High-Current Step-Down DC/DC and Dual Linear Regulator with I2C-Compatible Interface, 24-pin LLP, 4500 Reel; PartNumber: LP3907QSQX-JXI7/NOPB; Manufacturer: National Semiconductor; PackageTopMarking: NS*UZXYTT*07QJXI7; PowerWise: N; CompType: Switcher; High-Reliability: Y; DatasheetVersion: Aug-2011; PackageVersion: revB, Aug-2003; PackageReference: SQA24A; PackageDescription: LLP, Plastic, Quad, 4 x 4 x 0.8mm Body, 24 Lead, 0.5mm Pitch, No Pullback; RoHS: Y; PinCount: 24; Code_JEDEC: MO-220-WGGD-6; ComponentLink1Description: Manufacturer URL; ComponentLink1URL: http://www.national.com/; ComponentLink2Description: LP3907 Datasheet; ComponentLink2URL: http://www.national.com/ds/LP/LP3907.pdf; ComponentLink3Description: LP3907 Web Page; ComponentLink3URL: http://www.national.com/pf/LP/LP3907.html; ComponentLink4Description: SQA24A Package Page; ComponentLink4URL: http://www.national.com/packaging/folders/sqa24a.html
footprint SQA24A (QFN, 24-Leads, Body 4x4mm, Pitch 0.5mm, Thermal Pad 2.7x2.7mm, NSC Recommended)
pins: 1 VINLDO12 (power), 2 EN_T (in), 3 nPOR (oc), 4 GND_SW1 (power), 5 SW1 (power), 6 VIN1 (power), 7 ENSW1 (in), 8 FB1 (in), 9 GND_C (power), 10 AVDD (power), 11 FB2 (in), 12 ENSW2 (in), 13 VIN2 (power), 14 SW2 (power), 15 GND_SW2 (power), 16 SDA (io), 17 SCL (in), 18 GND_L (power), 19 VINLDO1 (power), 20 LDO1 (power), 21 ENLDO1 (in), 22 ENLDO2 (in), 23 LDO2 (power), 24 VINLDO2 (power), 25 DAP (power)

## LP3907QSQX-JXIP/NOPB
designator U?
Dual High-Current Step-Down DC/DC and Dual Linear Regulator with I2C-Compatible Interface, 24-pin LLP; PartNumber: LP3907QSQX-JXIP/NOPB; Manufacturer: National Semiconductor; PackageTopMarking: NS*UZXYTT*07QJXIP; PowerWise: N; CompType: Switcher; High-Reliability: Y; DatasheetVersion: Aug-2011; PackageVersion: revB, Aug-2003; PackageReference: SQA24A; PackageDescription: LLP, Plastic, Quad, 4 x 4 x 0.8mm Body, 24 Lead, 0.5mm Pitch, No Pullback; RoHS: Y; PinCount: 24; Code_JEDEC: MO-220-WGGD-6; ComponentLink1Description: Manufacturer URL; ComponentLink1URL: http://www.national.com/; ComponentLink2Description: LP3907 Datasheet; ComponentLink2URL: http://www.national.com/ds/LP/LP3907.pdf; ComponentLink3Description: LP3907 Web Page; ComponentLink3URL: http://www.national.com/pf/LP/LP3907.html; ComponentLink4Description: SQA24A Package Page; ComponentLink4URL: http://www.national.com/packaging/folders/sqa24a.html
footprint SQA24A (QFN, 24-Leads, Body 4x4mm, Pitch 0.5mm, Thermal Pad 2.7x2.7mm, NSC Recommended)
pins: 1 VINLDO12 (power), 2 EN_T (in), 3 nPOR (oc), 4 GND_SW1 (power), 5 SW1 (power), 6 VIN1 (power), 7 ENSW1 (in), 8 FB1 (in), 9 GND_C (power), 10 AVDD (power), 11 FB2 (in), 12 ENSW2 (in), 13 VIN2 (power), 14 SW2 (power), 15 GND_SW2 (power), 16 SDA (io), 17 SCL (in), 18 GND_L (power), 19 VINLDO1 (power), 20 LDO1 (power), 21 ENLDO1 (in), 22 ENLDO2 (in), 23 LDO2 (power), 24 VINLDO2 (power), 25 DAP (power)

## LP3907QTL-VXSS/NOPB
designator U?
Dual High-Current Step-Down DC/DC and Dual Linear Regulator with I2C Compatible Interface, 25-pin Micro SMD, Pb-Free, 250 Reel; PartNumber: LP3907QTL-VXSS/NOPB; Manufacturer: National Semiconductor; PackageTopMarking: XYTT*I V025; PowerWise: N; CompType: Switcher; High-Reliability: Y; DatasheetVersion: Aug-2011; PackageVersion: revD, Dec-2003; PackageReference: TLA25AAA; PackageDescription: Thin Micro SMD, 25 Bump (Large), 0.5mm Pitch; RoHS: Y; PinCount: 25; Code_JEDEC: MO-211-DH; ComponentLink1Description: Manufacturer URL; ComponentLink1URL: http://www.national.com/; ComponentLink2Description: LP3907 Datasheet; ComponentLink2URL: http://www.national.com/ds/LP/LP3907.pdf; ComponentLink3Description: LP3907 Web Page; ComponentLink3URL: http://www.national.com/pf/LP/LP3907.html; ComponentLink4Description: TLA25AAA Package Page; ComponentLink4URL: http://www.national.com/packaging/folders/tla25aaa.html
footprint TLA25AAA (Micro SMD, 25-Leads, Body 2.49x2.49mm, Pitch 0.5mm, NSC Recommended)
pins: A1 VINLDO1 (power), A2 LDO1 (power), A3 ENLDO2 (in), A4 LDO2 (power), A5 VINLDO2 (power), B1 GND_L (power), B2 SCL (in), B3 ENLDO1 (in), B4 VINLDO12 (power), B5 VINLDO12 (power), C1 GND_SW2 (power), C2 SDA (io), C3 nPOR (oc), C4 EN_T (in), C5 GND_SW1 (power), D1 SW2 (power), D2 ENSW2 (in), D3 GND_C (power), D4 ENSW1 (in), D5 SW1 (power), E1 VIN2 (power), E2 FB2 (in), E3 AVDD (power), E4 FB1 (in), E5 VIN1 (power)

## LP3907QTLX-VXSS/NOPB
designator U?
Dual High-Current Step-Down DC/DC and Dual Linear Regulator with I2C Compatible Interface, 25-pin Micro SMD, Pb-Free, 3000 Reel; PartNumber: LP3907QTLX-VXSS/NOPB; Manufacturer: National Semiconductor; PackageTopMarking: XYTT*I V025; PowerWise: N; CompType: Switcher; High-Reliability: Y; DatasheetVersion: Aug-2011; PackageVersion: revD, Dec-2003; PackageReference: TLA25AAA; PackageDescription: Thin Micro SMD, 25 Bump (Large), 0.5mm Pitch; RoHS: Y; PinCount: 25; Code_JEDEC: MO-211-DH; ComponentLink1Description: Manufacturer URL; ComponentLink1URL: http://www.national.com/; ComponentLink2Description: LP3907 Datasheet; ComponentLink2URL: http://www.national.com/ds/LP/LP3907.pdf; ComponentLink3Description: LP3907 Web Page; ComponentLink3URL: http://www.national.com/pf/LP/LP3907.html; ComponentLink4Description: TLA25AAA Package Page; ComponentLink4URL: http://www.national.com/packaging/folders/tla25aaa.html
footprint TLA25AAA (Micro SMD, 25-Leads, Body 2.49x2.49mm, Pitch 0.5mm, NSC Recommended)
pins: A1 VINLDO1 (power), A2 LDO1 (power), A3 ENLDO2 (in), A4 LDO2 (power), A5 VINLDO2 (power), B1 GND_L (power), B2 SCL (in), B3 ENLDO1 (in), B4 VINLDO12 (power), B5 VINLDO12 (power), C1 GND_SW2 (power), C2 SDA (io), C3 nPOR (oc), C4 EN_T (in), C5 GND_SW1 (power), D1 SW2 (power), D2 ENSW2 (in), D3 GND_C (power), D4 ENSW1 (in), D5 SW1 (power), E1 VIN2 (power), E2 FB2 (in), E3 AVDD (power), E4 FB1 (in), E5 VIN1 (power)

## LP3907SQ-BFX6W/NOPB
designator U?
Dual High-Current Step-Down DC/DC and Dual Linear Regulator with I2C Compatible Interface, 24-pin LLP, Pb-Free, 1000 Reel; PartNumber: LP3907SQ-BFX6W/NOPB; Manufacturer: National Semiconductor; PackageTopMarking: NS*UZXYTT*7BFX6W; PowerWise: N; CompType: Switcher; High-Reliability: Y; DatasheetVersion: Aug-2011; PackageVersion: revB, Aug-2003; PackageReference: SQA24A; PackageDescription: LLP, Plastic, Quad, 4 x 4 x 0.8mm Body, 24 Lead, 0.5mm Pitch, No Pullback; RoHS: Y; PinCount: 24; Code_JEDEC: MO-220-WGGD-6; ComponentLink1Description: Manufacturer URL; ComponentLink1URL: http://www.national.com/; ComponentLink2Description: LP3907 Datasheet; ComponentLink2URL: http://www.national.com/ds/LP/LP3907.pdf; ComponentLink3Description: LP3907 Web Page; ComponentLink3URL: http://www.national.com/pf/LP/LP3907.html; ComponentLink4Description: SQA24A Package Page; ComponentLink4URL: http://www.national.com/packaging/folders/sqa24a.html
footprint SQA24A (QFN, 24-Leads, Body 4x4mm, Pitch 0.5mm, Thermal Pad 2.7x2.7mm, NSC Recommended)
pins: 1 VINLDO12 (power), 2 EN_T (in), 3 nPOR (oc), 4 GND_SW1 (power), 5 SW1 (power), 6 VIN1 (power), 7 ENSW1 (in), 8 FB1 (in), 9 GND_C (power), 10 AVDD (power), 11 FB2 (in), 12 ENSW2 (in), 13 VIN2 (power), 14 SW2 (power), 15 GND_SW2 (power), 16 SDA (io), 17 SCL (in), 18 GND_L (power), 19 VINLDO1 (power), 20 LDO1 (power), 21 ENLDO1 (in), 22 ENLDO2 (in), 23 LDO2 (power), 24 VINLDO2 (power), 25 DAP (power)

## LP3907SQ-BJX6X/NOPB
designator U?
Dual High-Current Step-Down DC/DC and Dual Linear Regulator with I2C-Compatible Interface, 24-pin LLP; PartNumber: LP3907SQ-BJX6X/NOPB; Manufacturer: National Semiconductor; PackageTopMarking: NS*UZXYTT*07BJX6X; PowerWise: N; CompType: Switcher; High-Reliability: Y; DatasheetVersion: Aug-2011; PackageVersion: revB, Aug-2003; PackageReference: SQA24A; PackageDescription: LLP, Plastic, Quad, 4 x 4 x 0.8mm Body, 24 Lead, 0.5mm Pitch, No Pullback; RoHS: Y; PinCount: 24; Code_JEDEC: MO-220-WGGD-6; ComponentLink1Description: Manufacturer URL; ComponentLink1URL: http://www.national.com/; ComponentLink2Description: LP3907 Datasheet; ComponentLink2URL: http://www.national.com/ds/LP/LP3907.pdf; ComponentLink3Description: LP3907 Web Page; ComponentLink3URL: http://www.national.com/pf/LP/LP3907.html; ComponentLink4Description: SQA24A Package Page; ComponentLink4URL: http://www.national.com/packaging/folders/sqa24a.html
footprint SQA24A (QFN, 24-Leads, Body 4x4mm, Pitch 0.5mm, Thermal Pad 2.7x2.7mm, NSC Recommended)
pins: 1 VINLDO12 (power), 2 EN_T (in), 3 nPOR (oc), 4 GND_SW1 (power), 5 SW1 (power), 6 VIN1 (power), 7 ENSW1 (in), 8 FB1 (in), 9 GND_C (power), 10 AVDD (power), 11 FB2 (in), 12 ENSW2 (in), 13 VIN2 (power), 14 SW2 (power), 15 GND_SW2 (power), 16 SDA (io), 17 SCL (in), 18 GND_L (power), 19 VINLDO1 (power), 20 LDO1 (power), 21 ENLDO1 (in), 22 ENLDO2 (in), 23 LDO2 (power), 24 VINLDO2 (power), 25 DAP (power)

## LP3907SQ-BJXIX/NOPB
designator U?
Dual High-Current Step-Down DC/DC and Dual Linear Regulator with I2C Compatible Interface, 24-pin LLP, Pb-Free, 1000 Reel; PartNumber: LP3907SQ-BJXIX/NOPB; Manufacturer: National Semiconductor; PackageTopMarking: NS*UZXYTT*07BJXIX; PowerWise: N; CompType: Switcher; High-Reliability: Y; DatasheetVersion: Aug-2011; PackageVersion: revB, Aug-2003; PackageReference: SQA24A; PackageDescription: LLP, Plastic, Quad, 4 x 4 x 0.8mm Body, 24 Lead, 0.5mm Pitch, No Pullback; RoHS: Y; PinCount: 24; Code_JEDEC: MO-220-WGGD-6; ComponentLink1Description: Manufacturer URL; ComponentLink1URL: http://www.national.com/; ComponentLink2Description: LP3907 Datasheet; ComponentLink2URL: http://www.national.com/ds/LP/LP3907.pdf; ComponentLink3Description: LP3907 Web Page; ComponentLink3URL: http://www.national.com/pf/LP/LP3907.html; ComponentLink4Description: SQA24A Package Page; ComponentLink4URL: http://www.national.com/packaging/folders/sqa24a.html
footprint SQA24A (QFN, 24-Leads, Body 4x4mm, Pitch 0.5mm, Thermal Pad 2.7x2.7mm, NSC Recommended)
pins: 1 VINLDO12 (power), 2 EN_T (in), 3 nPOR (oc), 4 GND_SW1 (power), 5 SW1 (power), 6 VIN1 (power), 7 ENSW1 (in), 8 FB1 (in), 9 GND_C (power), 10 AVDD (power), 11 FB2 (in), 12 ENSW2 (in), 13 VIN2 (power), 14 SW2 (power), 15 GND_SW2 (power), 16 SDA (io), 17 SCL (in), 18 GND_L (power), 19 VINLDO1 (power), 20 LDO1 (power), 21 ENLDO1 (in), 22 ENLDO2 (in), 23 LDO2 (power), 24 VINLDO2 (power), 25 DAP (power)

## LP3907SQ-BJXQX/NOPB
designator U?
Dual High-Current Step-Down DC/DC and Dual Linear Regulator with I2C Compatible Interface, 24-pin LLP, Pb-Free, 1000 Reel; PartNumber: LP3907SQ-BJXQX/NOPB; Manufacturer: National Semiconductor; PackageTopMarking: NS*UZXYTT*07BJXQX; PowerWise: N; CompType: Switcher; High-Reliability: Y; DatasheetVersion: Aug-2011; PackageVersion: revB, Aug-2003; PackageReference: SQA24A; PackageDescription: LLP, Plastic, Quad, 4 x 4 x 0.8mm Body, 24 Lead, 0.5mm Pitch, No Pullback; RoHS: Y; PinCount: 24; Code_JEDEC: MO-220-WGGD-6; ComponentLink1Description: Manufacturer URL; ComponentLink1URL: http://www.national.com/; ComponentLink2Description: LP3907 Datasheet; ComponentLink2URL: http://www.national.com/ds/LP/LP3907.pdf; ComponentLink3Description: LP3907 Web Page; ComponentLink3URL: http://www.national.com/pf/LP/LP3907.html; ComponentLink4Description: SQA24A Package Page; ComponentLink4URL: http://www.national.com/packaging/folders/sqa24a.html
footprint SQA24A (QFN, 24-Leads, Body 4x4mm, Pitch 0.5mm, Thermal Pad 2.7x2.7mm, NSC Recommended)
pins: 1 VINLDO12 (power), 2 EN_T (in), 3 nPOR (oc), 4 GND_SW1 (power), 5 SW1 (power), 6 VIN1 (power), 7 ENSW1 (in), 8 FB1 (in), 9 GND_C (power), 10 AVDD (power), 11 FB2 (in), 12 ENSW2 (in), 13 VIN2 (power), 14 SW2 (power), 15 GND_SW2 (power), 16 SDA (io), 17 SCL (in), 18 GND_L (power), 19 VINLDO1 (power), 20 LDO1 (power), 21 ENLDO1 (in), 22 ENLDO2 (in), 23 LDO2 (power), 24 VINLDO2 (power), 25 DAP (power)

## LP3907SQ-BJYQX/NOPB
designator U?
Dual High-Current Step-Down DC/DC and Dual Linear Regulator with I2C Compatible Interface, 24-pin LLP, Pb-Free, 1000 Reel; PartNumber: LP3907SQ-BJYQX/NOPB; Manufacturer: National Semiconductor; PackageTopMarking: NS*UZXYTT*07BJYQX; PowerWise: N; CompType: Switcher; High-Reliability: Y; DatasheetVersion: Aug-2011; PackageVersion: revB, Aug-2003; PackageReference: SQA24A; PackageDescription: LLP, Plastic, Quad, 4 x 4 x 0.8mm Body, 24 Lead, 0.5mm Pitch, No Pullback; RoHS: Y; PinCount: 24; Code_JEDEC: MO-220-WGGD-6; ComponentLink1Description: Manufacturer URL; ComponentLink1URL: http://www.national.com/; ComponentLink2Description: LP3907 Datasheet; ComponentLink2URL: http://www.national.com/ds/LP/LP3907.pdf; ComponentLink3Description: LP3907 Web Page; ComponentLink3URL: http://www.national.com/pf/LP/LP3907.html; ComponentLink4Description: SQA24A Package Page; ComponentLink4URL: http://www.national.com/packaging/folders/sqa24a.html
footprint SQA24A (QFN, 24-Leads, Body 4x4mm, Pitch 0.5mm, Thermal Pad 2.7x2.7mm, NSC Recommended)
pins: 1 VINLDO12 (power), 2 EN_T (in), 3 nPOR (oc), 4 GND_SW1 (power), 5 SW1 (power), 6 VIN1 (power), 7 ENSW1 (in), 8 FB1 (in), 9 GND_C (power), 10 AVDD (power), 11 FB2 (in), 12 ENSW2 (in), 13 VIN2 (power), 14 SW2 (power), 15 GND_SW2 (power), 16 SDA (io), 17 SCL (in), 18 GND_L (power), 19 VINLDO1 (power), 20 LDO1 (power), 21 ENLDO1 (in), 22 ENLDO2 (in), 23 LDO2 (power), 24 VINLDO2 (power), 25 DAP (power)